# Altium footprint library DIODES PTH.PcbLib: 160 footprints (part 9 of 10)
Each footprint in its own frame and in the unit in brackets; x right, y up, seen from the top. Pads: shape width x height; smd on the part's side, far side on the other; paste and mask are expansions set on the pad; w line width, h text height; cw(c..) or ccw(c..) is an arc to the next point about the centre after c.
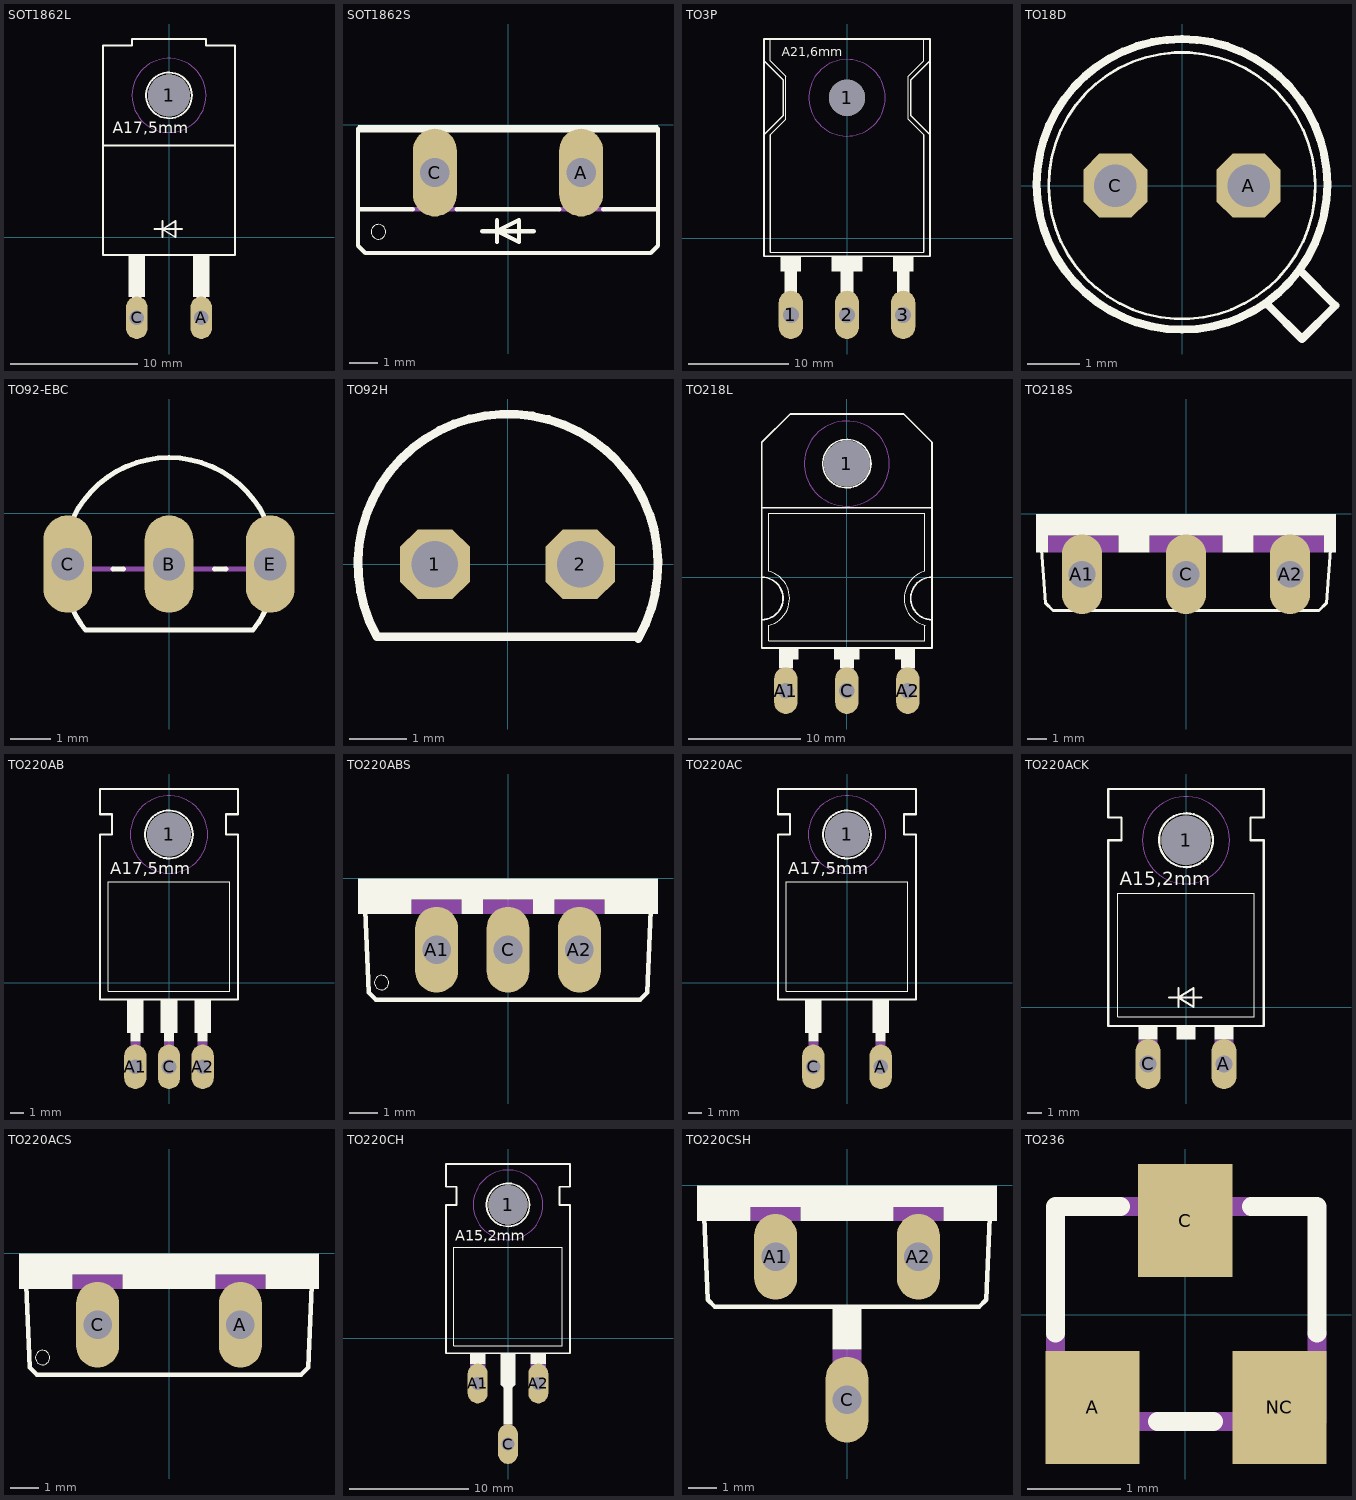
[diagram p8: the footprints below, top view; thin cyan lines are the x and y axes]

## SOT1862L [mil]
pads (3):
  round 130 hole 130: 1(0,440)
  oval 66x132 hole 44: A(100,-250) C(-100,-250)
Top Overlay:
  circle w6: c0,440 r71
  rectangle: -125,-185 -75,-55
  rectangle: 75,-185 125,-55
  rectangle: 85,-190 115,-185
  rectangle: -115,-190 -85,-185
  lines w6: -45,25 -20,25 ; -20,0 -20,25 ; -20,50 -20,25 ; 40,25 -20,25 ; -205,285 -205,-55 205,-55 205,285 ; -205,285 205,285 ; -205,285 -205,595 -115,595 -115,615 115,615 115,595 205,595 205,285 ; -20,25 20,0 20,50 -20,25
  text "A17,5mm" at -175,310 h60.45
Mechanical 9:
  circle w0: c0,440 r115
Mechanical 10:
  circle w0: c0,440 r115
Mechanical 16:
  rectangle: 85,-255 115,-190
  rectangle: -115,-255 -85,-190

## SOT1862S [mil]
pads (2):
  oval 60x120 hole 40: A(100,-65) C(-100,-65)
Top Overlay:
  circle w0: c-177,-146 r10
  rectangle: -205,-10 205,0
  lines w6: -205,-5 -205,-115 ; -130,-115 -205,-115 ; -70,-115 70,-115 ; -35,-145 -15,-145 ; -15,-160 -15,-145 ; -15,-130 -15,-145 ; 35,-145 -15,-145 ; 130,-115 205,-115 ; 205,-5 205,-115 ; -205,-115 -205,-165 -195,-175 195,-175 205,-165 205,-115 ; -15,-145 15,-130 15,-160 -15,-145
Mechanical 16:
  lines w6: -130,-115 -115,-115 ; -115,-5 -115,-115 ; -70,-115 -115,-115 ; 70,-115 115,-115 ; 115,-5 115,-115 ; 130,-115 115,-115

## TO3P [mil]
pads (4):
  oval 94.5x189 hole 63: 1(-220,-300) 2(0,-300) 3(220,-300)
  round 142 hole 142: 1(0,550)
Top Overlay:
  circle w6: c0,550 r65
  rectangle: -60,-130 60,-70
  rectangle: 180,-130 260,-70
  rectangle: -25,-220 25,-130
  rectangle: 195,-220 245,-130
  rectangle: -260,-130 -180,-70
  rectangle: -245,-220 -195,-130
  lines w2: -300,-55 300,-55 ; -300,405 -240,465 -240,635 -300,695 -300,780 ; 300,405 240,465 240,635 300,695 300,780
  lines w6: -300,-55 -300,405 ; 300,-55 300,405 ; -325,405 -325,-70 325,-70 325,405 ; -325,405 -250,480 -250,620 -325,695 ; -325,405 -325,695 ; -325,695 -325,780 -300,780 300,780 325,780 325,695 ; 325,405 325,695 ; 325,405 250,480 250,620 325,695
  text "A21,6mm" at -255,700 h60.45
Mechanical 9:
  circle w0: c0,550 r150
Mechanical 10:
  circle w0: c0,550 r150
Mechanical 16:
  rectangle: -245,-295 -195,-220
  rectangle: -25,-295 25,-220
  rectangle: 195,-295 245,-220

## TO18D [mil]
pads (2):
  oct 48x48 hole 32: A(50,0) C(-50,0)
Top Overlay:
  circle w2: c0,0 r100
  circle w6: c0,1 r109
  lines w6: 65,-90 90,-115 115,-90 90,-65

## TO92-EBC [mil]
pads (3):
  oval 48x96 hole 32: B(0,-50) C(-100,-50) E(100,-50)
Top Overlay:
  lines w5: -95.02,-94.72 ccw(c-0.02,-50) -82.48,-115 83,-115 ccw(c0.55,-49.91) 96,-93.77 ; -95,-5.28 cw(c0,-50) 95,-5.28 ; -55.28,-55 -44.72,-55 ; 45,-55 56,-55
Mechanical 16:
  lines w5: -104.88,-55 -55.28,-55 ; -95,-94.72 cw(c0,-50) -95,-5.28 ; -44.72,-55 45,-55 ; 56,-55 105,-55 ; 95,-94.72 ccw(c0,-50) 95,-5.28

## TO92H [mil]
pads (2):
  oct 48x48 hole 32: 1(-50,0) 2(50,0)
Top Overlay:
  lines w6: 90,-51.08 ccw(c0.3,0.17) -90,-50 90,-50

## TO218L [mil]
pads (4):
  round 162 hole 162: 1(0,400)
  oval 82.5x165 hole 55: A1(-215,-400) A2(215,-400) C(0,-400)
Top Overlay:
  circle w6: c0,400 r85
  rectangle: 190,-320 240,-250
  rectangle: -25,-320 25,-250
  rectangle: -240,-320 -190,-250
  rectangle: -45,-290 45,-250
  rectangle: 170,-290 240,-250
  rectangle: -240,-290 -170,-250
  lines w2: 274,20 ccw(c300.69,-74.73) 276,-169.99 ; 275,-170 275,-225 -275,-225 -275,-170 ccw(c-300,-75) -275,20 -275,225 275,225 275,20
  lines w6: -300,-150 ccw(c-300,-75) -300,0 ; -300,-150 -300,0 ; -300,-150 -300,-250 300,-250 300,-150 ; -300,0 -300,245 ; -300,245 -300,475 -200,575 200,575 300,475 300,245 ; -300,245 300,245 ; 300,-150 cw(c300,-75) 300,0 ; 300,-150 300,0 ; 300,0 300,245
Mechanical 9:
  circle w0: c0,400 r150
Mechanical 10:
  circle w0: c0,400 r150
Mechanical 16:
  rectangle: 190,-405 240,-320
  rectangle: -25,-405 25,-320
  rectangle: -240,-405 -190,-320

## TO218S [mil]
pads (3):
  oval 82.5x165 hole 55: A1(-215,-125) A2(215,-125) C(0,-125)
Top Overlay:
  rectangle: -310,-45 310,0
  rectangle: -140,-80 -75,-45
  rectangle: 75,-80 140,-45
  rectangle: -310,-80 -285,-45
  rectangle: 285,-80 310,-45
  lines w6: -300,-60 -290,-185 -275,-200 275,-200 290,-185 300,-60
Mechanical 16:
  rectangle: 140,-80 285,-45
  rectangle: -285,-80 -140,-45
  rectangle: -75,-80 75,-45

## TO220AB [mil]
pads (4):
  round 130 hole 130: 1(0,440)
  oval 66x132 hole 44: A1(-100,-250) A2(100,-250) C(0,-250)
Top Overlay:
  circle w6: c0,440 r71
  rectangle: 85,-175 115,-150
  rectangle: -15,-175 15,-150
  rectangle: -115,-175 -85,-150
  rectangle: -125,-150 -75,-50
  rectangle: -25,-150 25,-50
  rectangle: 75,-150 125,-50
  lines w2: -180,-25 180,-25 180,300 -180,300 -180,-25
  lines w6: -205,-50 205,-50 205,440 170,440 170,500 205,500 205,575 -205,575 -205,500 -170,500 -170,440 -205,440 -205,-50
  text "A17,5mm" at -175,310 h60.45
Mechanical 9:
  circle w0: c0,440 r115
Mechanical 10:
  circle w0: c0,440 r115
Mechanical 16:
  rectangle: 85,-250 115,-175
  rectangle: -15,-250 15,-175
  rectangle: -115,-250 -85,-175

## TO220ABS [mil]
pads (3):
  oval 60x120 hole 40: A1(-100,-100) A2(100,-100) C(0,-100)
Top Overlay:
  circle w0: c-177,-146 r10
  rectangle: -210,-30 210,0
  rectangle: -210,-50 -135,-30
  rectangle: -65,-50 -35,-30
  rectangle: 35,-50 65,-30
  rectangle: 135,-50 210,-30
  lines w6: -200,-45 -195,-160 -185,-170 185,-170 195,-160 200,-45
Mechanical 16:
  rectangle: -135,-50 -65,-30
  rectangle: -35,-50 35,-30
  rectangle: 65,-50 135,-30

## TO220AC [mil]
pads (3):
  round 130 hole 130: 1(0,440)
  oval 66x132 hole 44: A(100,-250) C(-100,-250)
Top Overlay:
  circle w6: c0,440 r71
  rectangle: 85,-175 115,-150
  rectangle: -115,-175 -85,-150
  rectangle: -125,-150 -75,-50
  rectangle: 75,-150 125,-50
  lines w2: -180,-25 180,-25 180,300 -180,300 -180,-25
  lines w6: -205,-50 205,-50 205,440 170,440 170,500 205,500 205,575 -205,575 -205,500 -170,500 -170,440 -205,440 -205,-50
  text "A17,5mm" at -175,310 h60.45
Mechanical 9:
  circle w0: c0,440 r115
Mechanical 10:
  circle w0: c0,440 r115
Mechanical 16:
  rectangle: 85,-250 115,-175
  rectangle: -115,-250 -85,-175

## TO220ACK [mil]
pads (3):
  round 130 hole 130: 1(0,440)
  oval 66x132 hole 44: A(100,-150) C(-100,-150)
Top Overlay:
  circle w6: c0,440 r71
  rectangle: -125,-85 -75,-50
  rectangle: 75,-85 125,-50
  rectangle: -25,-85 25,-50
  lines w2: -180,-25 180,-25 180,300 -180,300 -180,-25
  lines w6: -45,25 -20,25 ; -20,0 -20,25 ; -20,50 -20,25 ; 40,25 -20,25 ; -20,25 20,0 20,50 -20,25 ; -205,-50 205,-50 205,440 170,440 170,500 205,500 205,575 -205,575 -205,500 -170,500 -170,440 -205,440 -205,-50
  text "A15,2mm" at -175,310 h60.45
Mechanical 9:
  circle w0: c0,440 r115
Mechanical 10:
  circle w0: c0,440 r115
Mechanical 16:
  rectangle: -125,-150 -75,-85
  rectangle: 75,-150 125,-85

## TO220ACS [mil]
pads (2):
  oval 60x120 hole 40: A(100,-100) C(-100,-100)
Top Overlay:
  circle w0: c-177,-146 r10
  rectangle: -65,-50 65,-30
  rectangle: 135,-50 210,-30
  rectangle: -210,-50 -135,-30
  rectangle: -210,-30 210,0
  lines w6: -200,-45 -195,-160 -185,-170 185,-170 195,-160 200,-45
Mechanical 16:
  rectangle: 65,-50 135,-30
  rectangle: -135,-50 -65,-30

## TO220CH [mil]
pads (4):
  round 130 hole 130: 1(0,440)
  oval 66x132 hole 44: A1(-100,-150) A2(100,-150) C(0,-350)
Top Overlay:
  circle w6: c0,440 r71
  rectangle: -25,-155 25,-50
  rectangle: -15,-285 15,-155
  rectangle: 75,-85 125,-50
  rectangle: -125,-85 -75,-50
  lines w2: -180,-25 -180,300 180,300 180,-25 -180,-25
  lines w6: -205,-50 -205,440 -170,440 -170,500 -205,500 -205,575 205,575 205,500 170,500 170,440 205,440 205,-50 -205,-50
  lines w20: -15,-150 -10,-155 ; 10,-155 15,-150
  text "A15,2mm" at -175,310 h60.45
Mechanical 9:
  circle w0: c0,440 r115
Mechanical 10:
  circle w0: c0,440 r115
Mechanical 16:
  rectangle: -15,-350 15,-285
  rectangle: 75,-150 125,-85
  rectangle: -125,-150 -75,-85

## TO220CSH [mil]
pads (3):
  oval 60x120 hole 40: A1(-100,-100) A2(100,-100) C(0,-300)
Top Overlay:
  rectangle: -65,-50 65,-30
  rectangle: -20,-230 20,-170
  rectangle: 135,-50 210,-30
  rectangle: -210,-50 -135,-30
  rectangle: -210,-30 210,0
  lines w6: -200,-45 -195,-160 -185,-170 185,-170 195,-160 200,-45
Mechanical 16:
  rectangle: -20,-300 20,-230
  rectangle: 65,-50 135,-30
  rectangle: -135,-50 -65,-30

## TO236 [mil]
pads (3):
  rect 40x48 smd: A(-39.37,-39.37) C(0,40) NC(40,-39.37)
Top Overlay:
  lines w8: -55.12,-7.87 -55.12,46 -27.56,46 ; -11.81,-45.28 12,-45.28 ; 28,46 56,46 56,-7.87
Mechanical 16:
  rectangle: 32,-49.21 48,-23.62
  rectangle: -47.24,-49.21 -31.5,-23.62
  rectangle: -7.87,24 8,50
  lines w8: -55.12,-7.87 -55.12,-45.28 -11.81,-45.28 ; -27.56,46 28,46 ; 12,-45.28 56,-45.28 56,-7.87